# Altium schematic symbol library LTC3531EDD-3PBF.SchLib: 1 symbol
Pins are listed as number, name and electrical type; pins without a type are passive.

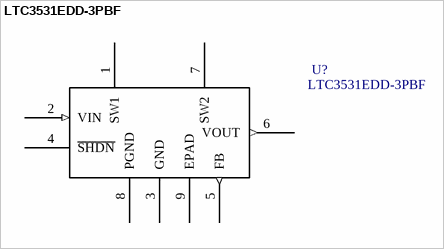
[diagram p0: symbol LTC3531EDD-3PBF]

## LTC3531EDD-3PBF
designator U?
LTC3531 - 200mA Buck-Boost Synchronous DC/DC Converters; MP: LTC3531EDD-3#PBF; MF: Linear Technology; Package: DFN-8 Linear Technology; Price: None; SnapEDA_Link: https://www.snapeda.com/parts/LTC3531EDD-3%23PBF/Linear%20Technology/view-part/?ref=snap; Availability: Unavailable; Value: *
footprint DFN-8_DD
pins: 1 SW1, 2 VIN (in), 3 GND (power), 4 ~{SHDN}, 5 FB (out), 6 VOUT (out), 7 SW2, 8 PGND (power), 9 EPAD